# EAGLE library part 418117270912 (library EAGLE-TACT_SWITCHES-rev16e)
2.54 mm compact THT with raised actuator WS-DITV, 12 Pole <http://katalog.we-online.de/media/images/v2/Family_WS_BS_4181172709xx_pf2.jpg> Details see: http://katalog.we-online.de/en/em/DITV_2_54_COMPACT_THT_WITH_RAISED_ACTUATOR 2015 (C) Wurth Elektronik
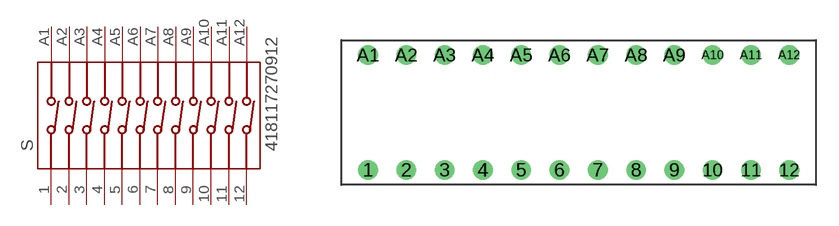
[diagram p41: symbol with the pads of 418117270912; footprint 418117270912]

Designator prefix S

## 418117270912  [418117270912]
1  1  pas
2  2  pas
3  3  pas
4  4  pas
5  5  pas
6  6  pas
7  7  pas
8  8  pas
9  9  pas
10  10  pas
11  11  pas
12  12  pas
A1  A1  pas
A2  A2  pas
A3  A3  pas
A4  A4  pas
A5  A5  pas
A6  A6  pas
A7  A7  pas
A8  A8  pas
A9  A9  pas
A10  A10  pas
A11  A11  pas
A12  A12  pas

## Footprint 418117270912 (pad centres in mm)
WS-BS 2.54 mm compact THT Dip Switch with raised actuator, 12 Pole
drill 0.8: 1 -13.97,-3.81; 2 -11.43,-3.81; 3 -8.89,-3.81; 4 -6.35,-3.81; 5 -3.81,-3.81; 6 -1.27,-3.81; 7 1.27,-3.81; 8 3.81,-3.81; 9 6.35,-3.81; 10 8.89,-3.81; 11 11.43,-3.81; 12 13.97,-3.81; A1 -13.97,3.81; A2 -11.43,3.81; A3 -8.89,3.81; A4 -6.35,3.81; A5 -3.81,3.81; A6 -1.27,3.81; A7 1.27,3.81; A8 3.81,3.81; A9 6.35,3.81; A10 8.89,3.81; A11 11.43,3.81; A12 13.97,3.81